# EAGLE library part HD-LTS2801AB (library #PaJa_displeje)
LED displej - SA - 7 mm - zelena
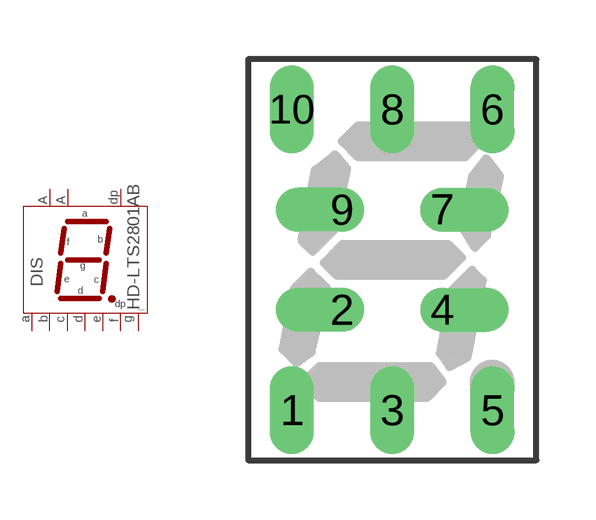
[diagram p15: symbol with the pads of HD10; footprint HD10]

Designator prefix DIS

## HD-LTS2801AB  [HD10]
1  E  pas
2  D  pas
3  CA1  pas
4  C  pas
5  DP  pas
6  B  pas
7  A  pas
8  CA2  pas
9  G  pas
10  F  pas

## Footprint HD10 (pad centres in mm)
7-segmentovy displej - spol. anoda vyska znaku 7mm
drill 0.61 long: 1 -2.54,-3.81; 3 0,-3.81; 5 2.54,-3.81; 6 2.54,3.81; 8 0,3.81; 10 -2.54,3.81
drill 0.61 offset: 2 -1.27,-1.27; 4 1.27,-1.27; 7 1.27,1.27; 9 -1.27,1.27